# EAGLE library part TDA7052 (library TDA7052)
1W Mono audio amplifier
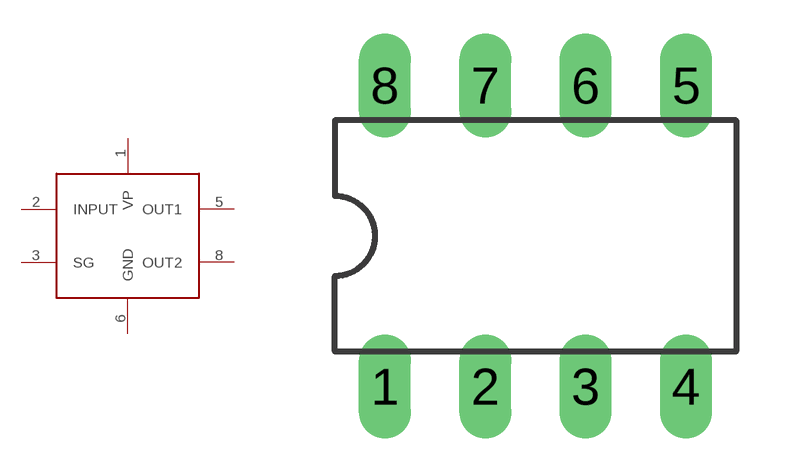
[diagram p0: symbol with the pads of DIL08; footprint DIL08]

Designator prefix -

## TDA7052  [DIL08]
1  VP  pwr
2  INPUT  in
3  SG  pwr
5  OUT1  out
6  GND  pwr
8  OUT2  out

## Footprint DIL08 (pad centres in mm)
Dual In Line Package
drill 0.813 long: 1 -3.81,-3.81; 2 -1.27,-3.81; 3 1.27,-3.81; 4 3.81,-3.81; 5 3.81,3.81; 6 1.27,3.81; 7 -1.27,3.81; 8 -3.81,3.81